# Altium integrated library Analog Devices Data Converters Analog-to-Digital Converters.IntLib: 2404 symbols (part 334 of 346)
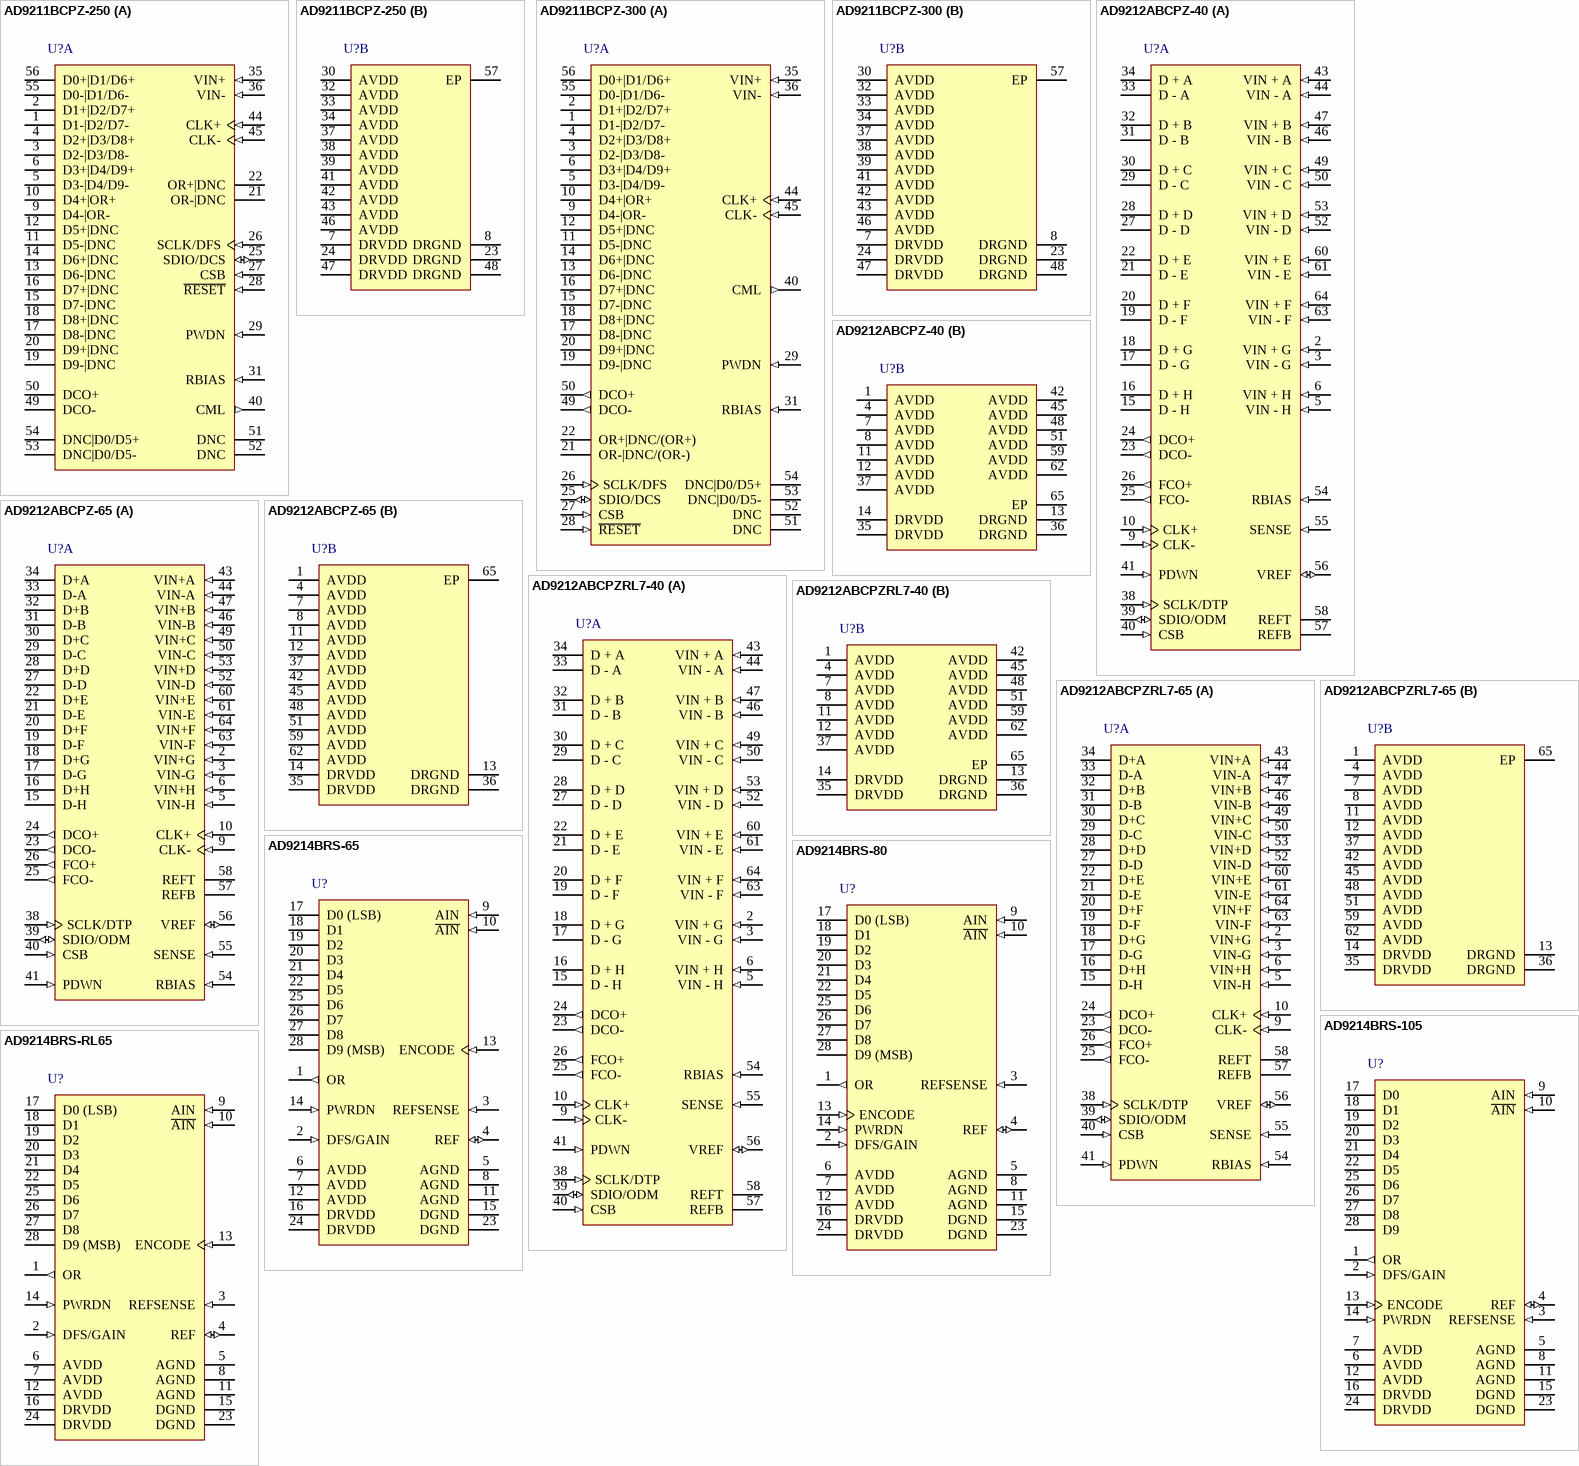
[diagram p433: symbols AD9211BCPZ-250 to AD9214BRS-RL65]

## AD9211BCPZ-250
designator U?
Single 10-Bit Analog-to-Digital Converter with LVDS, Parallel Interface, 1.8 V, 250MSPS, -40 to +85 degC, CP-56-2, Pb-Free, Tray; Generic Part Number: AD9211-250; Manufacturer: Analog Devices; PartNumber: AD9211BCPZ-250; Resolution (Bits): 10; Channels: 1; Throughput Rate (SPS): 200M; DatasheetVersion: Rev.0; PackageVersion: 112805-0; PackageReference: CP-56-2; PackageDescription: 56-Lead Lead Frame Chip Scale Package [LFCSP_VQ] 8 x 8 mm Body, Very Thin Quad; Supplier 1: Digi-Key; Supplier Part Number 1: AD9211BCPZ-250-ND; Supplier 2: Newark; Supplier Part Number 2: 34M5079; Supplier 3: Mouser; Supplier Part Number 3: 584-AD9211BCPZ-250; Interface: LVDS, Par; RoHS: Y; Packing: Tray; Mounting Technology: Surface Mount; Code_JEDEC: MO-220-VLLD-2; ComponentLink1Description: Manufacturer URL; ComponentLink1URL: http://www.analog.com/en/index.html; ComponentLink2Description: Datasheet; ComponentLink2URL: http://www.analog.com/static/imported-files/data_sheets/AD9211.pdf; ComponentLink3Description: Package Specification; ComponentLink3URL: http://www.analog.com/static/imported-files/packages/PKG_PDF/LFCSP(CP)/CP-56/CP_56_2.pdf; ComponentLink4Description: Product URL; ComponentLink4URL: http://www.analog.com/en/analog-to-digital-converters/ad-converters/ad9211/products/product.html
footprint CP-56-2_N (QFN, 56-Leads, Body 8x8mm, Pitch 0.5mm, Thermal Pad 4.3x4.3mm, IPC Medium Density)
footprint CP-56-2_L (QFN, 56-Leads, Body 8x8mm, Pitch 0.5mm, Thermal Pad 4.3x4.3mm, IPC High Density)
footprint CP-56-2_M (QFN, 56-Leads, Body 8x8mm, Pitch 0.5mm, Thermal Pad 4.3x4.3mm, IPC Low Density)
part A pins: 1 D1-|D2/D7- (hiz), 2 D1+|D2/D7+ (hiz), 3 D2-|D3/D8- (hiz), 4 D2+|D3/D8+ (hiz), 5 D3-|D4/D9- (hiz), 6 D3+|D4/D9+ (hiz), 9 D4-|OR- (hiz), 10 D4+|OR+ (hiz), 11 D5-|DNC (hiz), 12 D5+|DNC (hiz), 13 D6-|DNC (hiz), 14 D6+|DNC (hiz), 15 D7-|DNC (hiz), 16 D7+|DNC (hiz), 17 D8-|DNC (hiz), 18 D8+|DNC (hiz), 19 D9-|DNC (hiz), 20 D9+|DNC (hiz), 21 OR-|DNC (hiz), 22 OR+|DNC (hiz), 25 SDIO/DCS (io) "Serial Port Interface (SPI) Data Input/Output (Serial Port Mode); Duty Cycle Stabilizer Select (External Pin Mode).", 26 SCLK/DFS (in) "Serial Port Interface Clock (Serial Port Mode); Data Format Select Pin (External Pin Mode).", 27 CSB (in) "Serial Port Chip Select (Active Low).", 28 ~{RESET} (in) "CMOS-Compatible Chip Reset (Active Low).", 29 PWDN (in) "Chip Power-Down.", 31 RBIAS (in) "Set Pin for Chip Bias Current. (Place 1% 10 kO resistor terminated to ground.) Nominally 0.5 V.", 35 VIN+ (in) "Analog Input-True.", 36 VIN- (in) "Analog Input-Complement.", 40 CML (out) "Common-Mode Output Pin. Enabled through the SPI, this pin provides a reference for the optimized internal bias voltage for VIN+/VIN-.", 44 CLK+ (in) "Clock Input-True.", 45 CLK- (in) "Clock Input-Complement.", 49 DCO- (hiz) "Data Clock Output--Complement.", 50 DCO+ (hiz) "Data Clock Output--True.", 51 DNC "Do Not Connect.", 52 DNC "Do Not Connect.", 53 DNC|D0/D5- (hiz), 54 DNC|D0/D5+ (hiz), 55 D0-|D1/D6- (hiz), 56 D0+|D1/D6+ (hiz)
part B pins: 7 DRVDD (power) "1.8 V Digital Output Supply", 8 DRGND (power) "Digital Output Ground.", 23 DRGND (power) "Digital Output Ground.", 24 DRVDD (power) "1.8 V Digital Output Supply", 30 AVDD (power) "1.8 V Analog Supply.", 32 AVDD (power) "1.8 V Analog Supply.", 33 AVDD (power) "1.8 V Analog Supply.", 34 AVDD (power) "1.8 V Analog Supply.", 37 AVDD (power) "1.8 V Analog Supply.", 38 AVDD (power) "1.8 V Analog Supply.", 39 AVDD (power) "1.8 V Analog Supply.", 41 AVDD (power) "1.8 V Analog Supply.", 42 AVDD (power) "1.8 V Analog Supply.", 43 AVDD (power) "1.8 V Analog Supply.", 46 AVDD (power) "1.8 V Analog Supply.", 47 DRVDD (power) "1.8 V Digital Output Supply", 48 DRGND (power) "Digital Output Ground.", 57 EP (power) "Analog Ground."

## AD9211BCPZ-300
designator U?
Single 10-Bit Analog-to-Digital Converter with LVDS, Parallel Interface, 1.8 V 300MSPS, -40 to +85 degC, CP-56-2, Pb-Free, Tray; Generic Part Number: AD9211-300; Manufacturer: Analog Devices; PartNumber: AD9211BCPZ-300; Resolution (Bits): 10; Channels: 1; Throughput Rate (SPS): 300M; DatasheetVersion: Rev.0; PackageVersion: 112805-0; PackageReference: CP-56-2; PackageDescription: 56-Lead Lead Frame Chip Scale Package [LFCSP_VQ] 8 x 8 mm Body, Very Thin Quad; Supplier 1: Digi-Key; Supplier Part Number 1: AD9211BCPZ-300-ND; Supplier 2: Mouser; Supplier Part Number 2: 584-AD9211BCPZ-300; Interface: LVDS, Par; RoHS: Y; Packing: Tray; Mounting Technology: Surface Mount; Code_JEDEC: MO-220-VLLD-2; ComponentLink1Description: Manufacturer URL; ComponentLink1URL: http://www.analog.com/en/index.html; ComponentLink2Description: Datasheet; ComponentLink2URL: http://www.analog.com/static/imported-files/data_sheets/AD9211.pdf; ComponentLink3Description: Package Specification; ComponentLink3URL: http://www.analog.com/static/imported-files/packages/PKG_PDF/LFCSP(CP)/CP-56/CP_56_2.pdf; ComponentLink4Description: Product URL; ComponentLink4URL: http://www.analog.com/en/analog-to-digital-converters/ad-converters/ad9211/products/product.html
footprint CP-56-2_N (QFN, 56-Leads, Body 8x8mm, Pitch 0.5mm, Thermal Pad 4.3x4.3mm, IPC Medium Density)
footprint CP-56-2_L (QFN, 56-Leads, Body 8x8mm, Pitch 0.5mm, Thermal Pad 4.3x4.3mm, IPC High Density)
footprint CP-56-2_M (QFN, 56-Leads, Body 8x8mm, Pitch 0.5mm, Thermal Pad 4.3x4.3mm, IPC Low Density)
part A pins: 1 D1-|D2/D7- (hiz), 2 D1+|D2/D7+ (hiz), 3 D2-|D3/D8- (hiz), 4 D2+|D3/D8+ (hiz), 5 D3-|D4/D9- (hiz), 6 D3+|D4/D9+ (hiz), 9 D4-|OR- (hiz), 10 D4+|OR+ (hiz), 11 D5-|DNC (hiz), 12 D5+|DNC (hiz), 13 D6-|DNC (hiz), 14 D6+|DNC (hiz), 15 D7-|DNC (hiz), 16 D7+|DNC (hiz), 17 D8-|DNC (hiz), 18 D8+|DNC (hiz), 19 D9-|DNC (hiz), 20 D9+|DNC (hiz), 21 OR-|DNC/(OR-) (hiz), 22 OR+|DNC/(OR+) (hiz), 25 SDIO/DCS (io) "Serial Port Interface (SPI) Data Input/Output (Serial Port Mode); Duty Cycle Stabilizer Select (External Pin Mode).", 26 SCLK/DFS (in) "Serial Port Interface Clock (Serial Port Mode); Data Format Select Pin (External Pin Mode).", 27 CSB (in) "Serial Port Chip Select (Active Low).", 28 ~{RESET} (in) "CMOS-Compatible Chip Reset (Active Low).", 29 PWDN (in) "Chip Power-Down.", 31 RBIAS (in) "Set Pin for Chip Bias Current. (Place 1% 10 kO resistor terminated to ground.) Nominally 0.5 V.", 35 VIN+ (in) "Analog Input--True.", 36 VIN- (in) "Analog Input--Complement.", 40 CML (out) "Common-Mode Output Pin. Enabled through the SPI, this pin provides a reference for the optimized internal bias voltage for VIN+/VIN-.", 44 CLK+ (in) "Clock Input--True.", 45 CLK- (in) "Clock Input--Complement.", 49 DCO- (out) "Data Clock Output--Complement.", 50 DCO+ (out) "Data Clock Output--True.", 51 DNC "Do Not Connect.", 52 DNC "Do Not Connect.", 53 DNC|D0/D5- (hiz), 54 DNC|D0/D5+ (hiz), 55 D0-|D1/D6- (hiz), 56 D0+|D1/D6+ (hiz)
part B pins: 7 DRVDD (power) "1.8 V Digital Output Supply.", 8 DRGND (power) "Digital Output Ground.", 23 DRGND (power) "Digital Output Ground.", 24 DRVDD (power) "1.8 V Digital Output Supply.", 30 AVDD (power) "1.8 V Analog Supply.", 32 AVDD (power) "1.8 V Analog Supply.", 33 AVDD (power) "1.8 V Analog Supply.", 34 AVDD (power) "1.8 V Analog Supply.", 37 AVDD (power) "1.8 V Analog Supply.", 38 AVDD (power) "1.8 V Analog Supply.", 39 AVDD (power) "1.8 V Analog Supply.", 41 AVDD (power) "1.8 V Analog Supply.", 42 AVDD (power) "1.8 V Analog Supply.", 43 AVDD (power) "1.8 V Analog Supply.", 46 AVDD (power) "1.8 V Analog Supply.", 47 DRVDD (power) "1.8 V Digital Output Supply.", 48 DRGND (power) "Digital Output Ground.", 57 EP (power) "Analog Ground."

## AD9212ABCPZ-40
designator U?
Octal 10-Bit Analog-to-Digital Converter with LVDS, Serial Interface, 1.8 V, 40MSPS, -40 to +85 degC, CP-64-6, Pb-Free, Tray; Generic Part Number: AD9212-40; Manufacturer: Analog Devices; PartNumber: AD9212ABCPZ-40; Resolution (Bits): 10; Channels: 8; Throughput Rate (SPS): 40M; DatasheetVersion: Rev.E; PackageVersion: 041509-A; PackageReference: CP-64-6; PackageDescription: 64-Lead Lead Frame Chip Scale Package [LFCSP_VQ] 9 x 9 mm Body, Very Thin Quad; Supplier 1: Digi-Key; Supplier Part Number 1: AD9212ABCPZ-40-ND; Supplier 2: Mouser; Supplier Part Number 2: 584-AD9212ABCPZ-40; Interface: LVDS, Ser; RoHS: Y; Packing: Tray; Mounting Technology: Surface Mount; Code_JEDEC: MO-220-VMMD-4; ComponentLink1Description: Manufacturer URL; ComponentLink1URL: http://www.analog.com/en/index.html; ComponentLink2Description: Datasheet; ComponentLink2URL: http://www.analog.com/static/imported-files/data_sheets/AD9212.pdf; ComponentLink3Description: Package Specification; ComponentLink3URL: http://www.analog.com/static/imported-files/packages/PKG_PDF/LFCSP(CP)/CP_64_6.pdf; ComponentLink4Description: Product URL; ComponentLink4URL: http://www.analog.com/en/analog-to-digital-converters/ad-converters/ad9212/products/product.html
footprint CP-64-6_N (QFN, 64-Leads, Body 9x9mm, Pitch 0.5mm, Thermal Pad 7.5x7.5mm, IPC Medium Density)
footprint CP-64-6_L (QFN, 64-Leads, Body 9x9mm, Pitch 0.5mm, Thermal Pad 7.5x7.5mm, IPC High Density)
footprint CP-64-6_M (QFN, 64-Leads, Body 9x9mm, Pitch 0.5mm, Thermal Pad 7.5x7.5mm, IPC Low Density)
part A pins: 2 VIN + G (in) "ADC G Analog Input True", 3 VIN - G (in) "ADC G Analog Input Complement", 5 VIN - H (in) "ADC H Analog Input Complement", 6 VIN + H (in) "ADC H Analog Input True", 9 CLK- (in) "Input Clock Complement", 10 CLK+ (in) "Input Clock True", 15 D - H (hiz) "ADC H Digital Output Complement", 16 D + H (hiz) "ADC H Digital Output True", 17 D - G (hiz) "ADC G Digital Output Complement", 18 D + G (hiz) "ADC G Digital Output True", 19 D - F (hiz) "ADC F Digital Output Complement", 20 D + F (hiz) "ADC F Digital Output True", 21 D - E (hiz) "ADC E Digital Output Complement", 22 D + E (hiz) "ADC E Digital Output True", 23 DCO- (out) "Data Clock Digital Output Complement", 24 DCO+ (out) "Data Clock Digital Output True", 25 FCO- (out) "Frame Clock Digital Output Complement", 26 FCO+ (out) "Frame Clock Digital Output True", 27 D - D (hiz) "ADC D Digital Output Complement", 28 D + D (hiz) "ADC D Digital Output True", 29 D - C (hiz) "ADC C Digital Output Complement", 30 D + C (hiz) "ADC C Digital Output True", 31 D - B (hiz) "ADC B Digital Output Complement", 32 D + B (hiz) "ADC B Digital Output True", 33 D - A (hiz) "ADC A Digital Output Complement", 34 D + A (hiz) "ADC A Digital Output True", 38 SCLK/DTP (in) "Serial Clock/Digital Test Pattern", 39 SDIO/ODM (io) "Serial Data Input-Output/Output Driver Mode", 40 CSB (in) "Chip Select Bar", 41 PDWN (in) "Power-Down", 43 VIN + A (in) "ADC A Analog Input True", 44 VIN - A (in) "ADC A Analog Input Complement", 46 VIN - B (in) "ADC B Analog Input Complement", 47 VIN + B (in) "ADC B Analog Input True", 49 VIN + C (in) "ADC C Analog Input True", 50 VIN - C (in) "ADC C Analog Input Complement", 52 VIN - D (in) "ADC D Analog Input Complement", 53 VIN + D (in) "ADC D Analog Input True", 54 RBIAS (in) "External Resistor to Set the Internal ADC Core Bias Current", 55 SENSE (in) "Reference Mode Selection", 56 VREF (io) "Voltage Reference Input/Output", 57 REFB "Negative Differential Reference", 58 REFT "Positive Differential Reference", 60 VIN + E (in) "ADC E Analog Input True", 61 VIN - E (in) "ADC E Analog Input Complement", 63 VIN - F (in) "ADC F Analog Input Complement", 64 VIN + F (in) "ADC F Analog Input True"
part B pins: 1 AVDD (power) "1.8 V Analog Supply", 4 AVDD (power) "1.8 V Analog Supply", 7 AVDD (power) "1.8 V Analog Supply", 8 AVDD (power) "1.8 V Analog Supply", 11 AVDD (power) "1.8 V Analog Supply", 12 AVDD (power) "1.8 V Analog Supply", 13 DRGND (power) "Digital Output Driver Ground", 14 DRVDD (power) "1.8 V Digital Output Driver Supply", 35 DRVDD (power) "1.8 V Digital Output Driver Supply", 36 DRGND (power) "Digital Output Driver Ground", 37 AVDD (power) "1.8 V Analog Supply", 42 AVDD (power) "1.8 V Analog Supply", 45 AVDD (power) "1.8 V Analog Supply", 48 AVDD (power) "1.8 V Analog Supply", 51 AVDD (power) "1.8 V Analog Supply", 59 AVDD (power) "1.8 V Analog Supply", 62 AVDD (power) "1.8 V Analog Supply", 65 EP (power) "Analog Ground (Exposed Paddle)"